# Altium footprint library Custom.PCBLIB: 11 footprints
Each footprint in its own frame and in the unit in brackets; x right, y up, seen from the top. Pads: shape width x height; smd on the part's side, far side on the other; paste and mask are expansions set on the pad; w line width, h text height; cw(c..) or ccw(c..) is an arc to the next point about the centre after c.
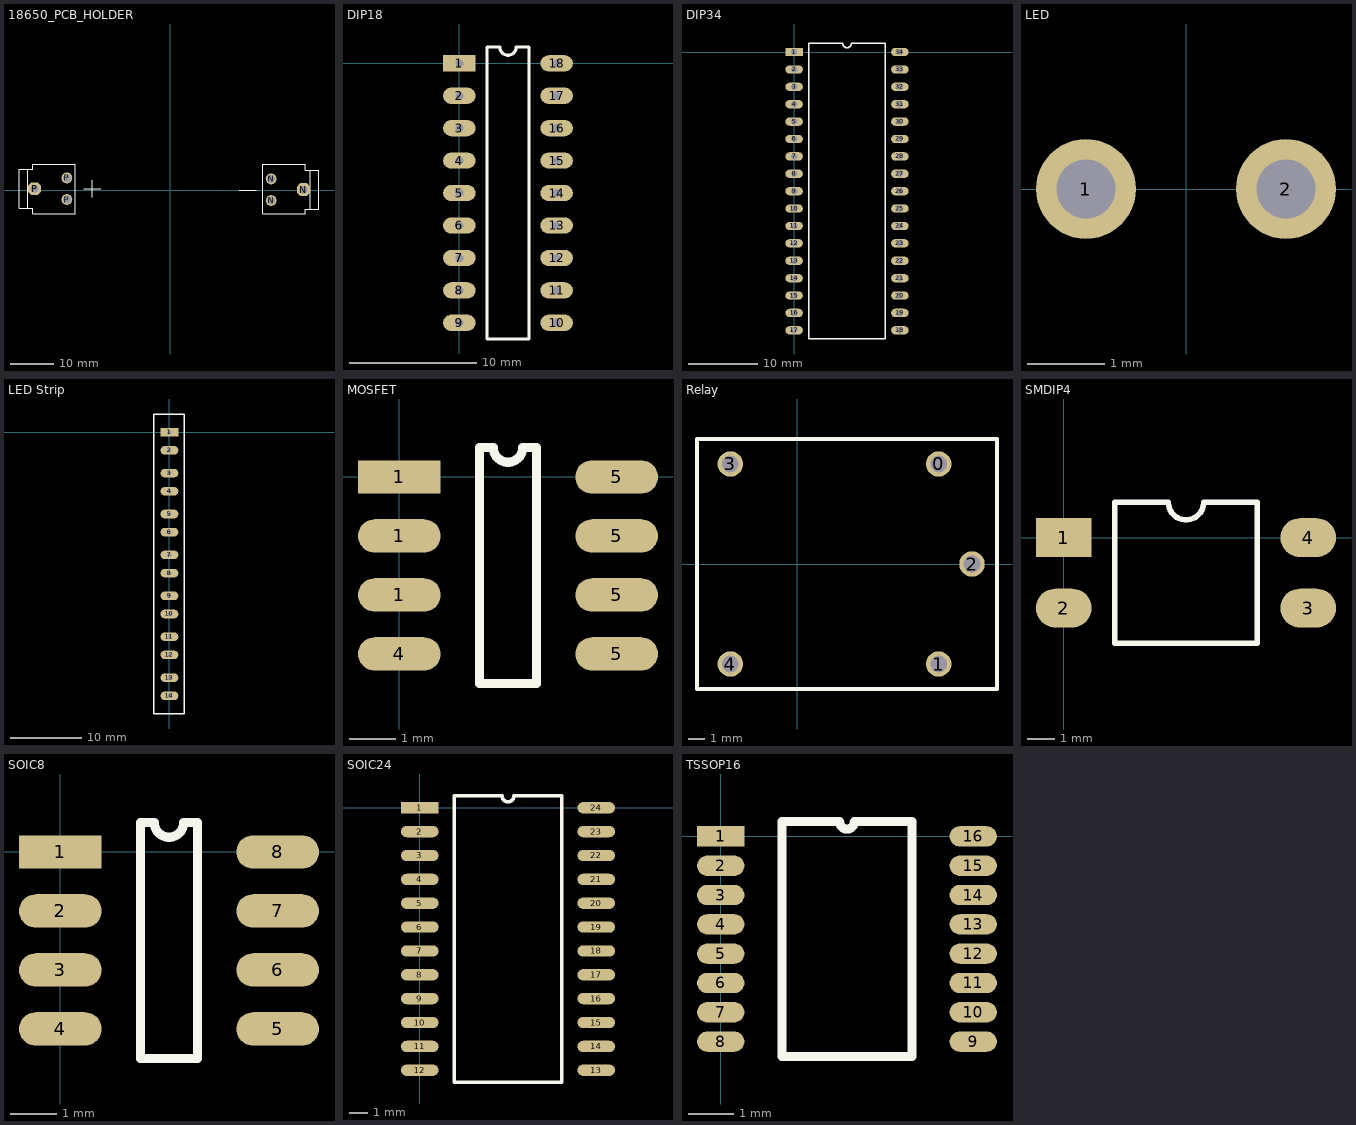
[diagram p0: the footprints below, top view; thin cyan lines are the x and y axes]

## 18650_PCB_HOLDER [mm]
pads (6):
  round 2.5 hole 1.8: N(23.4,-2.412) N(23.4,2.588) P(-23.95,-2.188) P(-23.95,2.812)
  oct 3x3 hole 1.8: N(30.9,0.088) P(-31.45,0.312)
Top Overlay:
  lines w0.127: -35.05,-4.188 -35.05,4.812 -31.85,4.812 -31.85,6 -22.05,6 -22.05,-5.5 -31.85,-5.5 -31.85,-4.188 -35.05,-4.188 ; 21.5,-5.5 21.5,6 31.3,6 31.3,4.588 34.5,4.588 34.5,-4.413 31.3,-4.413 31.3,-5.5 21.5,-5.5
  lines w0.254: -33.05,-4.188 -33.05,4.812 ; -20.05,0.312 -16.05,0.312 ; -18.05,-1.688 -18.05,2.312 ; 16,0 20,0 ; 32.5,-4.413 32.5,4.588

## DIP18 [mm]
pads (18):
  rect 2.54x1.27 hole 0.635: 1(0,0)
  oval 2.54x1.27 hole 0.635: 2(0,-2.54) 3(0,-5.08) 4(0,-7.62) 5(0,-10.16) 6(0,-12.7) 7(0,-15.24) 8(0,-17.78) 9(0,-20.32) 10(7.62,-20.32) 11(7.62,-17.78) 12(7.62,-15.24) 13(7.62,-12.7) 14(7.62,-10.16) 15(7.62,-7.62) 16(7.62,-5.08) 17(7.62,-2.54) 18(7.62,0)
Top Overlay:
  lines w0.254: 2.159,-21.59 2.159,1.27 3.175,1.27 ccw(c3.81,1.27) 4.445,1.27 5.461,1.27 5.461,-21.59 2.159,-21.59

## DIP34 [mm]
pads (34):
  rect 2.5x1.2 hole 0.9: 1(0,0)
  oval 2.5x1.2 hole 0.9: 2(0,-2.5) 3(0,-5) 4(0,-7.5) 5(0,-10) 6(0,-12.5) 7(0,-15) 8(0,-17.5) 9(0,-20) 10(0,-22.5) 11(0,-25) 12(0,-27.5) 13(0,-30) 14(0,-32.5) 15(0,-35) 16(0,-37.5) 17(0,-40) 18(15.2,-40) 19(15.2,-37.5) 20(15.2,-35) 21(15.2,-32.5) 22(15.2,-30) 23(15.2,-27.5) 24(15.2,-25) 25(15.2,-22.5) 26(15.2,-20) 27(15.2,-17.5) 28(15.2,-15) 29(15.2,-12.5) 30(15.2,-10) 31(15.2,-7.5) 32(15.2,-5) 33(15.2,-2.5) 34(15.2,0)
Top Overlay:
  lines w0.2: 2.085,-41.25 13.115,-41.25 13.115,1.25 8.225,1.25 cw(c7.6,1.25) 6.975,1.25 2.085,1.25 2.085,-41.25

## LED [mm]
pads (2):
  round 1.3 hole 0.762: 1(-1.3,0) 2(1.3,0)

## LED Strip [mm]
pads (14):
  rect 2.5x1.2 hole 0.6: 1(0,0)
  oval 2.5x1.2 hole 0.6: 2(0,-2.54) 3(0,-5.715) 4(0,-8.255) 5(0,-11.43) 6(0,-13.97) 7(0,-17.145) 8(0,-19.685) 9(0,-22.86) 10(0,-25.4) 11(0,-28.575) 12(0,-31.115) 13(0,-34.29) 14(0,-36.83)
Top Overlay:
  lines w0.2: -2.2,-39.37 -2.2,2.54 2.085,2.54 2.085,-39.37 -2.2,-39.37

## MOSFET [mm]
pads (8):
  oval 1.78x0.72 smd: 1(0,-2.54) 1(0,-1.27) 4(0,-3.81) 5(4.68,-3.81) 5(4.68,-2.54) 5(4.68,-1.27) 5(4.68,0)
  rect 1.78x0.72 smd: 1(0,0)
Top Overlay:
  lines w0.2: 1.725,-4.445 2.955,-4.445 2.955,0.635 2.658,0.635 cw(c2.34,0.635) 2.023,0.635 1.725,0.635 1.725,-4.445

## Relay [mm]
pads (5):
  round 1.524 hole 1: 0(8.5,6) 1(8.5,-6) 2(10.5,0) 3(-4,6) 4(-4,-6)
Top Overlay:
  lines w0.254: -6,-7.5 -6,7.5 12,7.5 12,-7.5 -6,-7.5

## SMDIP4 [mm]
pads (4):
  rect 2x1.4 smd: 1(0,0)
  oval 2x1.4 smd: 2(0,-2.54) 3(8.81,-2.54) 4(8.81,0)
Top Overlay:
  lines w0.2: 1.835,-3.81 1.835,1.27 3.77,1.27 ccw(c4.405,1.27) 5.04,1.27 6.975,1.27 6.975,-3.81 1.835,-3.81

## SOIC8 [mm]
pads (8):
  rect 1.78x0.72 smd: 1(0,0)
  oval 1.78x0.72 smd: 2(0,-1.27) 3(0,-2.54) 4(0,-3.81) 5(4.68,-3.81) 6(4.68,-2.54) 7(4.68,-1.27) 8(4.68,0)
Top Overlay:
  lines w0.2: 1.725,-4.445 2.955,-4.445 2.955,0.635 2.658,0.635 cw(c2.34,0.635) 2.023,0.635 1.725,0.635 1.725,-4.445

## SOIC24 [mm]
pads (24):
  rect 2x0.6 smd: 1(0,0)
  oval 2x0.6 smd: 2(0,-1.27) 3(0,-2.54) 4(0,-3.81) 5(0,-5.08) 6(0,-6.35) 7(0,-7.62) 8(0,-8.89) 9(0,-10.16) 10(0,-11.43) 11(0,-12.7) 12(0,-13.97) 13(9.4,-13.97) 14(9.4,-12.7) 15(9.4,-11.43) 16(9.4,-10.16) 17(9.4,-8.89) 18(9.4,-7.62) 19(9.4,-6.35) 20(9.4,-5.08) 21(9.4,-3.81) 22(9.4,-2.54) 23(9.4,-1.27) 24(9.4,0)
Top Overlay:
  lines w0.2: 1.835,-14.605 7.565,-14.605 7.565,0.635 5.017,0.635 cw(c4.7,0.635) 4.382,0.635 1.835,0.635 1.835,-14.605

## TSSOP16 [mm]
pads (16):
  rect 1.05x0.45 smd: 1(0,0)
  oval 1.05x0.45 smd: 2(0,-0.65) 3(0,-1.3) 4(0,-1.95) 5(0,-2.6) 6(0,-3.25) 7(0,-3.9) 8(0,-4.55) 9(5.6,-4.55) 10(5.6,-3.9) 11(5.6,-3.25) 12(5.6,-2.6) 13(5.6,-1.95) 14(5.6,-1.3) 15(5.6,-0.65) 16(5.6,0)
Top Overlay:
  lines w0.2: 1.36,-4.875 4.24,-4.875 4.24,0.325 2.962,0.325 cw(c2.8,0.325) 2.638,0.325 1.36,0.325 1.36,-4.875